# EAGLE library part MC14027BDG (library on-semiconductor-01)
Dual J-K Flip-Flop
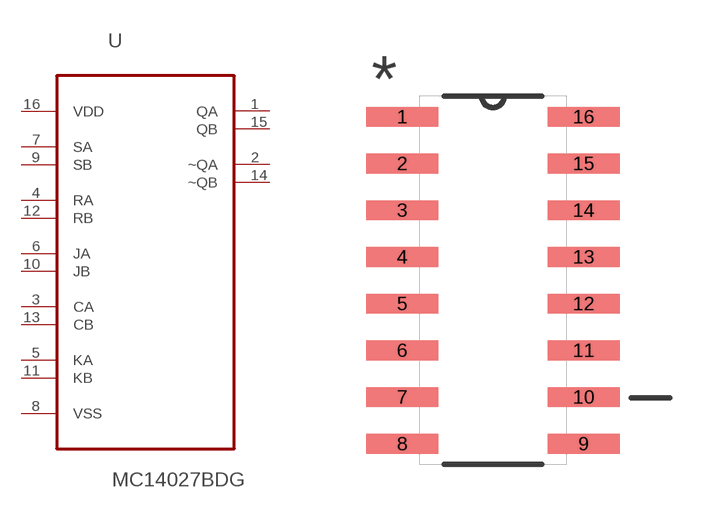
[diagram p220: symbol with the pads of SOIC127P600X175-16N; footprint SOIC127P600X175-16N]

Designator prefix U

## MC14027BDG (MPN: MC14027BDG; OC_FARNELL: 9666354; OC_NEWARK: 71J5463; PACKAGE: SOIC-16; SUPPLIER: ON SEMICONDUCTOR)  [SOIC127P600X175-16N]
1  QA  out
2  ~QA  out
3  CA  in
4  RA  in
5  KA  in
6  JA  in
7  SA  in
8  VSS  pas
9  SB  in
10  JB  in
11  KB  in
12  RB  in
13  CB  in
14  ~QB  out
15  QB  out
16  VDD  pwr

## Footprint SOIC127P600X175-16N (pad centres in mm)
smd 1.956 x 0.533: 1 -2.464,4.445; 2 -2.464,3.175; 3 -2.464,1.905; 4 -2.464,0.635; 5 -2.464,-0.635; 6 -2.464,-1.905; 7 -2.464,-3.175; 8 -2.464,-4.445; 9 2.464,-4.445; 10 2.464,-3.175; 11 2.464,-1.905; 12 2.464,-0.635; 13 2.464,0.635; 14 2.464,1.905; 15 2.464,3.175; 16 2.464,4.445